# EAGLE library part FT2232HL (library smf2)
FTDI FT2232HL Datenblatt <https://ftdichip.com/wp-content/uploads/2020/07/DS_FT2232H.pdf>
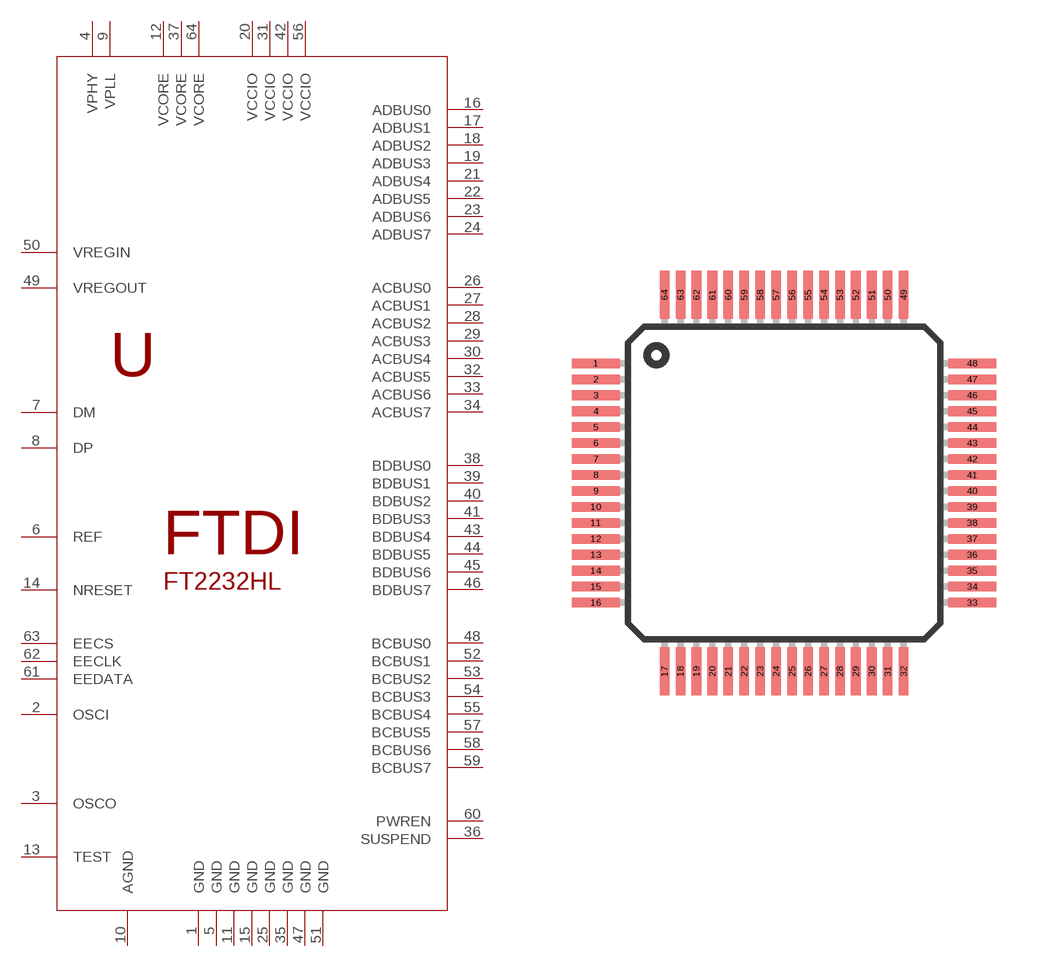
[diagram p0: symbol with the pads of LQFP64; footprint LQFP64]

Designator prefix -

## FT2232HL  [LQFP64]
1  GND
2  OSCI
3  OSCO
4  VPHY
5  GND
6  REF
7  DM
8  DP
9  VPLL
10  AGND
11  GND
12  VCORE
13  TEST
14  NRESET
15  GND
16  ADBUS0
17  ADBUS1
18  ADBUS2
19  ADBUS3
20  VCCIO
21  ADBUS4
22  ADBUS5
23  ADBUS6
24  ADBUS7
25  GND
26  ACBUS0
27  ACBUS1
28  ACBUS2
29  ACBUS3
30  ACBUS4
31  VCCIO
32  ACBUS5
33  ACBUS6
34  ACBUS7
35  GND
36  SUSPEND
37  VCORE
38  BDBUS0
39  BDBUS1
40  BDBUS2
41  BDBUS3
42  VCCIO
43  BDBUS4
44  BDBUS5
45  BDBUS6
46  BDBUS7
47  GND
48  BCBUS0
49  VREGOUT
50  VREGIN
51  GND
52  BCBUS1
53  BCBUS2
54  BCBUS3
55  BCBUS4
56  VCCIO
57  BCBUS5
58  BCBUS6
59  BCBUS7
60  PWREN
61  EEDATA
62  EECLK
63  EECS
64  VCORE

## Footprint LQFP64 (pad centres in mm)
smd 1.5 x 0.3: 1 -5.702,3.3; 2 -5.702,2.8; 3 -5.702,2.3; 4 -5.702,1.8; 5 -5.702,1.3; 6 -5.702,0.8; 7 -5.702,0.3; 8 -5.702,-0.2; 9 -5.702,-0.7; 10 -5.702,-1.2; 11 -5.702,-1.7; 12 -5.702,-2.2; 13 -5.702,-2.7; 14 -5.702,-3.2; 15 -5.702,-3.7; 16 -5.702,-4.2; 33 6.098,-4.2; 34 6.098,-3.7; 35 6.098,-3.2; 36 6.098,-2.7; 37 6.098,-2.2; 38 6.098,-1.7; 39 6.098,-1.2; 40 6.098,-0.7; 41 6.098,-0.2; 42 6.098,0.3; 43 6.098,0.8; 44 6.098,1.3; 45 6.098,1.8; 46 6.098,2.3; 47 6.098,2.8; 48 6.098,3.3
smd 0.3 x 1.5: 17 -3.552,-6.35; 18 -3.052,-6.35; 19 -2.552,-6.35; 20 -2.052,-6.35; 21 -1.552,-6.35; 22 -1.052,-6.35; 23 -0.552,-6.35; 24 -0.052,-6.35; 25 0.448,-6.35; 26 0.948,-6.35; 27 1.448,-6.35; 28 1.948,-6.35; 29 2.448,-6.35; 30 2.948,-6.35; 31 3.448,-6.35; 32 3.948,-6.35; 49 3.948,5.45; 50 3.448,5.45; 51 2.948,5.45; 52 2.448,5.45; 53 1.948,5.45; 54 1.448,5.45; 55 0.948,5.45; 56 0.448,5.45; 57 -0.052,5.45; 58 -0.552,5.45; 59 -1.052,5.45; 60 -1.552,5.45; 61 -2.052,5.45; 62 -2.552,5.45; 63 -3.052,5.45; 64 -3.552,5.45